# Altium footprint library alexsb.PCBLIB: 444 footprints (part 27 of 28)
Each footprint in its own frame and in the unit in brackets; x right, y up, seen from the top. Pads: shape width x height; smd on the part's side, far side on the other; paste and mask are expansions set on the pad; w line width, h text height; cw(c..) or ccw(c..) is an arc to the next point about the centre after c.
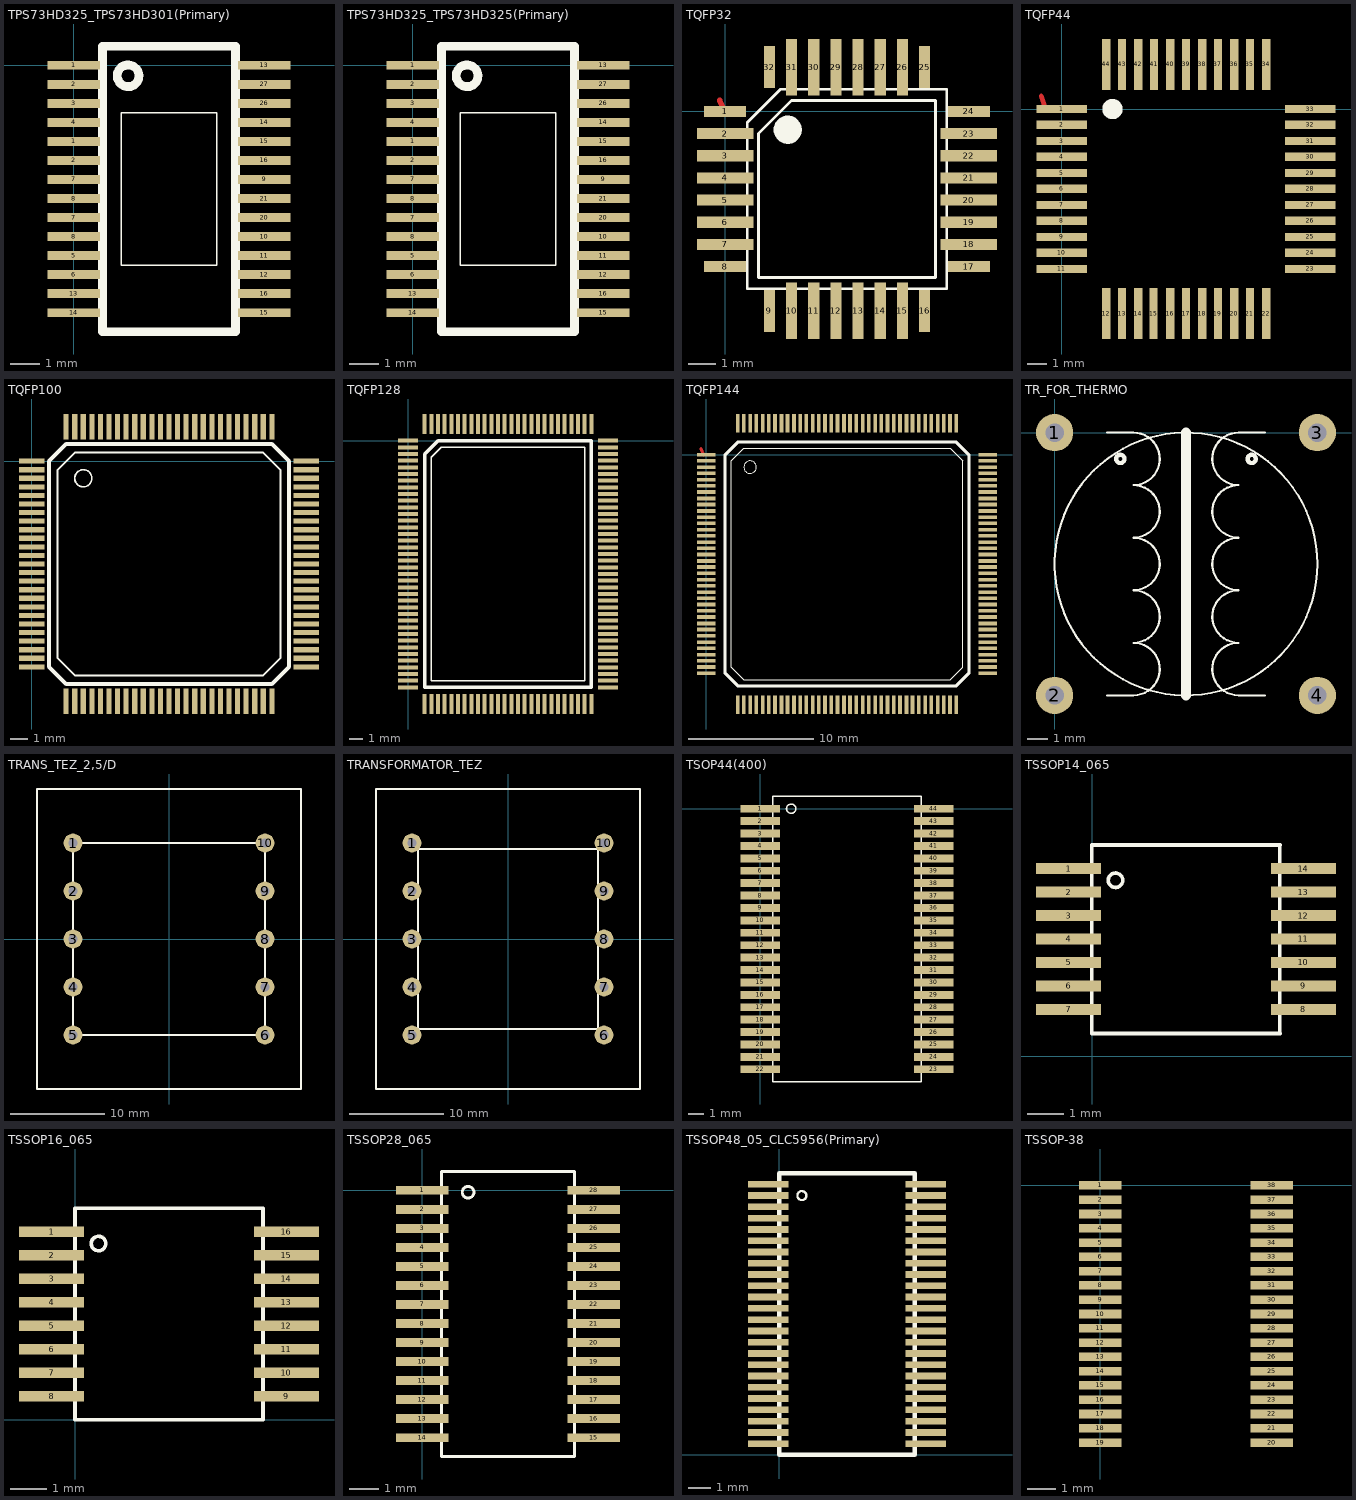
[diagram p26: the footprints below, top view; thin cyan lines are the x and y axes]

## TPS73HD325_TPS73HD301(Primary) [mm]
pads (28):
  rect 1.8x0.3 smd: 1(0,-2.6) 1(0,0) 2(0,-3.25) 2(0,-0.65) 3(0,-1.3) 4(0,-1.95) 5(0,-6.5) 6(0,-7.15) 7(0,-5.2) 7(0,-3.9) 8(0,-5.85) 8(0,-4.55) 9(6.5,-3.9) 10(6.5,-5.85) 11(6.5,-6.5) 12(6.5,-7.15) 13(0,-7.8) 13(6.5,0) 14(0,-8.45) 14(6.5,-1.95) 15(6.5,-8.45) 15(6.5,-2.6) 16(6.5,-7.8) 16(6.5,-3.25) 20(6.5,-5.2) 21(6.5,-4.55) 26(6.5,-1.3) 27(6.5,-0.65)
Top Overlay:
  lines w0.05: 1.625,-6.825 4.875,-6.825 4.875,-1.625 1.625,-1.625 1.625,-6.825
  lines w0.3: 2.048,-0.043 ccw(c1.853,-0.357) 2.136,-0.118 ; 0.975,-9.1 5.525,-9.1 5.525,0.65 0.975,0.65 0.975,-9.1

## TPS73HD325_TPS73HD325(Primary) [mm]
pads (28):
  rect 1.8x0.3 smd: 1(0,-2.6) 1(0,0) 2(0,-3.25) 2(0,-0.65) 3(0,-1.3) 4(0,-1.95) 5(0,-6.5) 6(0,-7.15) 7(0,-5.2) 7(0,-3.9) 8(0,-5.85) 8(0,-4.55) 9(6.5,-3.9) 10(6.5,-5.85) 11(6.5,-6.5) 12(6.5,-7.15) 13(0,-7.8) 13(6.5,0) 14(0,-8.45) 14(6.5,-1.95) 15(6.5,-8.45) 15(6.5,-2.6) 16(6.5,-7.8) 16(6.5,-3.25) 20(6.5,-5.2) 21(6.5,-4.55) 26(6.5,-1.3) 27(6.5,-0.65)
Top Overlay:
  lines w0.05: 1.625,-6.825 4.875,-6.825 4.875,-1.625 1.625,-1.625 1.625,-6.825
  lines w0.3: 2.048,-0.043 ccw(c1.853,-0.357) 2.136,-0.118 ; 0.975,-9.1 5.525,-9.1 5.525,0.65 0.975,0.65 0.975,-9.1

## TQFP32 [mil]
pads (32):
  rect 60x16 smd: 1(0,0) 8(0,-220.47) 17(346.46,-220.47) 24(346.46,0)
  rect 80x16 smd: 2(0,-31.5) 3(0,-62.99) 4(0,-94.49) 5(0,-125.98) 6(0,-157.48) 7(0,-188.98) 18(346.46,-188.98) 19(346.46,-157.48) 20(346.46,-125.98) 21(346.46,-94.49) 22(346.46,-62.99) 23(346.46,-31.5)
  rect 16x60 smd: 9(62.99,-283.46) 16(283.46,-283.46) 25(283.46,62.99) 32(62.99,62.99)
  rect 16x80 smd: 10(94.49,-283.46) 11(125.98,-283.46) 12(157.48,-283.46) 13(188.98,-283.46) 14(220.47,-283.46) 15(251.97,-283.46) 26(251.97,62.99) 27(220.47,62.99) 28(188.98,62.99) 29(157.48,62.99) 30(125.98,62.99) 31(94.49,62.99)
Top Layer:
  lines w7.87: -7.87,15.75 0,0
Top Overlay:
  circle w20: c88.98,-25.98 r10
  lines w3.94: 31.5,-251.97 314.96,-251.97 314.96,31.5 78.74,31.5 31.5,-15.75 31.5,-251.97 ; 47.24,-236.22 299.21,-236.22 299.21,15.75 94.49,15.75 47.24,-31.5 47.24,-236.22

## TQFP44 [mil]
pads (44):
  rect 100x16 smd: 1(0,0) 2(0,-31) 3(0,-63) 4(0,-94) 5(0,-126) 6(0,-157) 7(0,-189) 8(0,-220) 9(0,-252) 10(0,-283) 11(0,-315) 23(490,-315) 24(490,-283) 25(490,-252) 26(490,-220) 27(490,-189) 28(490,-157) 29(490,-126) 30(490,-94) 31(490,-63) 32(490,-31) 33(490,0)
  rect 16x100 smd: 12(88,-403) 13(119,-403) 14(151,-403) 15(181,-403) 16(214,-403) 17(245,-403) 18(277,-403) 19(308,-403) 20(340,-403) 21(371,-403) 22(403,-403) 34(403,88) 35(371,88) 36(340,88) 37(308,88) 38(277,88) 39(245,88) 40(214,88) 41(182,88) 42(151,88) 43(119,88) 44(88,88)
Top Layer:
  lines w9.84: -40.16,25.98 -32.28,2.36
Top Overlay:
  circle w20: c100,0 r10

## TQFP100 [mm]
pads (100):
  rect 1.5x0.3 smd: 1(0,0) 2(0,-0.5) 3(0,-1) 4(0,-1.5) 5(0,-2) 6(0,-2.5) 7(0,-3) 8(0,-3.5) 9(0,-4) 10(0,-4.5) 11(0,-5) 12(0,-5.5) 13(0,-6) 14(0,-6.5) 15(0,-7) 16(0,-7.5) 17(0,-8) 18(0,-8.5) 19(0,-9) 20(0,-9.5) 21(0,-10) 22(0,-10.5) 23(0,-11) 24(0,-11.5) 25(0,-12) 51(16,-12) 52(16,-11.5) 53(16,-11) 54(16,-10.5) 55(16,-10) 56(16,-9.5) 57(16,-9) 58(16,-8.5) 59(16,-8) 60(16,-7.5) 61(16,-7) 62(16,-6.5) 63(16,-6) 64(16,-5.5) 65(16,-5) 66(16,-4.5) 67(16,-4) 68(16,-3.5) 69(16,-3) 70(16,-2.5) 71(16,-2) 72(16,-1.5) 73(16,-1) 74(16,-0.5) 75(16,0)
  rect 0.3x1.5 smd: 26(2,-14) 27(2.5,-14) 28(3,-14) 29(3.5,-14) 30(4,-14) 31(4.5,-14) 32(5,-14) 33(5.5,-14) 34(6,-14) 35(6.5,-14) 36(7,-14) 37(7.5,-14) 38(8,-14) 39(8.5,-14) 40(9,-14) 41(9.5,-14) 42(10,-14) 43(10.5,-14) 44(11,-14) 45(11.5,-14) 46(12,-14) 47(12.5,-14) 48(13,-14) 49(13.5,-14) 50(14,-14) 76(14,2) 77(13.5,2) 78(13,2) 79(12.5,2) 80(12,2) 81(11.5,2) 82(11,2) 83(10.5,2) 84(10,2) 85(9.5,2) 86(9,2) 87(8.5,2) 88(8,2) 89(7.5,2) 90(7,2) 91(6.5,2) 92(6,2) 93(5.5,2) 94(5,2) 95(4.5,2) 96(4,2) 97(3.5,2) 98(3,2) 99(2.5,2) 100(2,2)
Top Overlay:
  circle w0.1: c3,-1 r0.5
  lines w0.1: 1.5,-11.5 2.5,-12.5 13.5,-12.5 14.5,-11.5 14.5,-0.5 13.5,0.5 2.5,0.5 1.5,-0.5 1.5,-11.5
  lines w0.25: 1,-12 2,-13 14,-13 15,-12 15,0 14,1 2,1 1,0 1,-12

## TQFP128 [mm]
pads (128):
  rect 1.5x0.3 smd: 1(0,0) 2(0,-0.5) 3(0,-1) 4(0,-1.5) 5(0,-2) 6(0,-2.5) 7(0,-3) 8(0,-3.5) 9(0,-4) 10(0,-4.5) 11(0,-5) 12(0,-5.5) 13(0,-6) 14(0,-6.5) 15(0,-7) 16(0,-7.5) 17(0,-8) 18(0,-8.5) 19(0,-9) 20(0,-9.5) 21(0,-10) 22(0,-10.5) 23(0,-11) 24(0,-11.5) 25(0,-12) 26(0,-12.5) 27(0,-13) 28(0,-13.5) 29(0,-14) 30(0,-14.5) 31(0,-15) 32(0,-15.5) 33(0,-16) 34(0,-16.5) 35(0,-17) 36(0,-17.5) 37(0,-18) 38(0,-18.5) 65(15,-18.5) 66(15,-18) 67(15,-17.5) 68(15,-17) 69(15,-16.5) 70(15,-16) 71(15,-15.5) 72(15,-15) 73(15,-14.5) 74(15,-14) 75(15,-13.5) 76(15,-13) 77(15,-12.5) 78(15,-12) 79(15,-11.5) 80(15,-11) 81(15,-10.5) 82(15,-10) 83(15,-9.5) 84(15,-9) 85(15,-8.5) 86(15,-8) 87(15,-7.5) 88(15,-7) 89(15,-6.5) 90(15,-6) 91(15,-5.5) 92(15,-5) 93(15,-4.5) 94(15,-4) 95(15,-3.5) 96(15,-3) 97(15,-2.5) 98(15,-2) 99(15,-1.5) 100(15,-1) 101(15,-0.5) 102(15,0)
  rect 0.3x1.5 smd: 39(1.25,-19.75) 40(1.75,-19.75) 41(2.25,-19.75) 42(2.75,-19.75) 43(3.25,-19.75) 44(3.75,-19.75) 45(4.25,-19.75) 46(4.75,-19.75) 47(5.25,-19.75) 48(5.75,-19.75) 49(6.25,-19.75) 50(6.75,-19.75) 51(7.25,-19.75) 52(7.75,-19.75) 53(8.25,-19.75) 54(8.75,-19.75) 55(9.25,-19.75) 56(9.75,-19.75) 57(10.25,-19.75) 58(10.75,-19.75) 59(11.25,-19.75) 60(11.75,-19.75) 61(12.25,-19.75) 62(12.75,-19.75) 63(13.25,-19.75) 64(13.75,-19.75) 103(13.75,1.25) 104(13.25,1.25) 105(12.75,1.25) 106(12.25,1.25) 107(11.75,1.25) 108(11.25,1.25) 109(10.75,1.25) 110(10.25,1.25) 111(9.75,1.25) 112(9.25,1.25) 113(8.75,1.25) 114(8.25,1.25) 115(7.75,1.25) 116(7.25,1.25) 117(6.75,1.25) 118(6.25,1.25) 119(5.75,1.25) 120(5.25,1.25) 121(4.75,1.25) 122(4.25,1.25) 123(3.75,1.25) 124(3.25,1.25) 125(2.75,1.25) 126(2.25,1.25) 127(1.75,1.25) 128(1.25,1.25)
Top Overlay:
  lines w0.1: 1.75,-18 13.25,-18 13.25,-0.5 2.5,-0.5 1.75,-1.25 1.75,-18
  lines w0.254: 1.25,-18.5 13.75,-18.5 13.75,0 2.25,0 1.25,-1 1.25,-18.5

## TQFP144 [mm]
pads (144):
  rect 1.5x0.3 smd: 1(0,0) 2(0,-0.5) 3(0,-1) 4(0,-1.5) 5(0,-2) 6(0,-2.5) 7(0,-3) 8(0,-3.5) 9(0,-4) 10(0,-4.5) 11(0,-5) 12(0,-5.5) 13(0,-6) 14(0,-6.5) 15(0,-7) 16(0,-7.5) 17(0,-8) 18(0,-8.5) 19(0,-9) 20(0,-9.5) 21(0,-10) 22(0,-10.5) 23(0,-11) 24(0,-11.5) 25(0,-12) 26(0,-12.5) 27(0,-13) 28(0,-13.5) 29(0,-14) 30(0,-14.5) 31(0,-15) 32(0,-15.5) 33(0,-16) 34(0,-16.5) 35(0,-17) 36(0,-17.5) 73(22.5,-17.5) 74(22.5,-17) 75(22.5,-16.5) 76(22.5,-16) 77(22.5,-15.5) 78(22.5,-15) 79(22.5,-14.5) 80(22.5,-14) 81(22.5,-13.5) 82(22.5,-13) 83(22.5,-12.5) 84(22.5,-12) 85(22.5,-11.5) 86(22.5,-11) 87(22.5,-10.5) 88(22.5,-10) 89(22.5,-9.5) 90(22.5,-9) 91(22.5,-8.5) 92(22.5,-8) 93(22.5,-7.5) 94(22.5,-7) 95(22.5,-6.5) 96(22.5,-6) 97(22.5,-5.5) 98(22.5,-5) 99(22.5,-4.5) 100(22.5,-4) 101(22.5,-3.5) 102(22.5,-3) 103(22.5,-2.5) 104(22.5,-2) 105(22.5,-1.5) 106(22.5,-1) 107(22.5,-0.5) 108(22.5,0)
  rect 0.3x1.5 smd: 37(2.5,-20) 38(3,-20) 39(3.5,-20) 40(4,-20) 41(4.5,-20) 42(5,-20) 43(5.5,-20) 44(6,-20) 45(6.5,-20) 46(7,-20) 47(7.5,-20) 48(8,-20) 49(8.5,-20) 50(9,-20) 51(9.5,-20) 52(10,-20) 53(10.5,-20) 54(11,-20) 55(11.5,-20) 56(12,-20) 57(12.5,-20) 58(13,-20) 59(13.5,-20) 60(14,-20) 61(14.5,-20) 62(15,-20) 63(15.5,-20) 64(16,-20) 65(16.5,-20) 66(17,-20) 67(17.5,-20) 68(18,-20) 69(18.5,-20) 70(19,-20) 71(19.5,-20) 72(20,-20) 109(20,2.5) 110(19.5,2.5) 111(19,2.5) 112(18.5,2.5) 113(18,2.5) 114(17.5,2.5) 115(17,2.5) 116(16.5,2.5) 117(16,2.5) 118(15.5,2.5) 119(15,2.5) 120(14.5,2.5) 121(14,2.5) 122(13.5,2.5) 123(13,2.5) 124(12.5,2.5) 125(12,2.5) 126(11.5,2.5) 127(11,2.5) 128(10.5,2.5) 129(10,2.5) 130(9.5,2.5) 131(9,2.5) 132(8.5,2.5) 133(8,2.5) 134(7.5,2.5) 135(7,2.5) 136(6.5,2.5) 137(6,2.5) 138(5.5,2.5) 139(5,2.5) 140(4.5,2.5) 141(4,2.5) 142(3.5,2.5) 143(3,2.5) 144(2.5,2.5)
Top Layer:
  lines w0.25: -0.44,0.48 -0.24,-0.02
Top Overlay:
  circle w0.1: c3.5,-1 r0.5
  lines w0.1: 2,-17 2,-0.5 3,0.5 19.5,0.5 20.5,-0.5 20.5,-17 19.5,-18 3,-18 2,-17
  lines w0.254: 1.5,-17.5 2.5,-18.5 20,-18.5 21,-17.5 21,0 20,1 2.5,1 1.5,0 1.5,-17.5

## TR_FOR_THERMO [mm]
pads (4):
  round 1.8 hole 0.9: 1(0,0) 2(0,-12.7) 3(12.7,0) 4(12.7,-12.7)
Top Overlay:
  circle w0.1: c6.35,-6.35 r6.35
  circle w0.2: c9.525,-1.27 r0.2
  circle w0.2: c3.175,-1.27 r0.2
  lines w0.1: 2.54,-12.7 3.81,-12.7 ; 2.54,0 3.81,0 ; 5.02,-11.816 ccw(c3.81,-11.43) 3.81,-10.16 ; 5.02,-9.276 ccw(c3.81,-8.89) 3.81,-7.62 ; 5.02,-6.736 ccw(c3.81,-6.35) 3.81,-5.08 ; 5.02,-4.196 ccw(c3.81,-3.81) 3.81,-2.54 ; 5.02,-1.656 ccw(c3.81,-1.27) 3.81,0 ; 7.68,-11.816 cw(c8.89,-11.43) 8.89,-10.16 ; 7.68,-9.276 cw(c8.89,-8.89) 8.89,-7.62 ; 7.68,-6.736 cw(c8.89,-6.35) 8.89,-5.08 ; 7.68,-4.196 cw(c8.89,-3.81) 8.89,-2.54 ; 7.68,-1.656 cw(c8.89,-1.27) 8.89,0 ; 10.16,-12.7 8.89,-12.7 ; 10.16,0 8.89,0 ; 3.81,-12.7 ccw(c3.81,-11.43) 3.81,-10.16 ; 3.81,-12.7 ccw(c3.81,-11.43) 3.81,-10.16 ; 3.81,-10.16 ccw(c3.81,-8.89) 3.81,-7.62 ; 3.81,-10.16 ccw(c3.81,-8.89) 3.81,-7.62 ; 3.81,-7.62 ccw(c3.81,-6.35) 3.81,-5.08 ; 3.81,-7.62 ccw(c3.81,-6.35) 3.81,-5.08 ; 3.81,-5.08 ccw(c3.81,-3.81) 3.81,-2.54 ; 3.81,-5.08 ccw(c3.81,-3.81) 3.81,-2.54 ; 3.81,-2.54 ccw(c3.81,-1.27) 3.81,0 ; 3.81,-2.54 ccw(c3.81,-1.27) 3.81,0 ; 8.89,-12.7 cw(c8.89,-11.43) 8.89,-10.16 ; 8.89,-12.7 cw(c8.89,-11.43) 8.89,-10.16 ; 8.89,-10.16 cw(c8.89,-8.89) 8.89,-7.62 ; 8.89,-10.16 cw(c8.89,-8.89) 8.89,-7.62 ; 8.89,-7.62 cw(c8.89,-6.35) 8.89,-5.08 ; 8.89,-7.62 cw(c8.89,-6.35) 8.89,-5.08 ; 8.89,-5.08 cw(c8.89,-3.81) 8.89,-2.54 ; 8.89,-5.08 cw(c8.89,-3.81) 8.89,-2.54 ; 8.89,-2.54 cw(c8.89,-1.27) 8.89,0 ; 8.89,-2.54 cw(c8.89,-1.27) 8.89,0
  lines w0.5: 6.35,-12.7 6.35,0

## TRANS_TEZ_2,5/D [mm]
pads (10):
  round 2 hole 0.9: 1(-10.16,10.16) 2(-10.16,5.08) 3(-10.16,0) 4(-10.16,-5.08) 5(-10.16,-10.16) 6(10.16,-10.16) 7(10.16,-5.08) 8(10.16,0) 9(10.16,5.08) 10(10.16,10.16)
Top Overlay:
  lines w0.254: -13.97,-15.875 13.97,-15.875 13.97,15.875 -13.97,15.875 -13.97,-15.875 ; -10.16,-10.16 10.16,-10.16 10.16,10.16 -10.16,10.16 -10.16,-10.16

## TRANSFORMATOR_TEZ [mm]
pads (10):
  round 2 hole 0.9: 1(-10.16,10.16) 2(-10.16,5.08) 3(-10.16,0) 4(-10.16,-5.08) 5(-10.16,-10.16) 6(10.16,-10.16) 7(10.16,-5.08) 8(10.16,0) 9(10.16,5.08) 10(10.16,10.16)
Top Overlay:
  lines w0.254: -13.97,-15.875 13.97,-15.875 13.97,15.875 -13.97,15.875 -13.97,-15.875 ; -9.525,-9.525 9.525,-9.525 9.525,9.525 -9.525,9.525 -9.525,-9.525

## TSOP44(400) [mm]
pads (44):
  rect 2.54x0.508 smd: 1(0,0) 2(0,-0.8) 3(0,-1.6) 4(0,-2.4) 5(0,-3.2) 6(0,-4) 7(0,-4.8) 8(0,-5.6) 9(0,-6.4) 10(0,-7.2) 11(0,-8) 12(0,-8.8) 13(0,-9.6) 14(0,-10.4) 15(0,-11.2) 16(0,-12) 17(0,-12.8) 18(0,-13.6) 19(0,-14.4) 20(0,-15.2) 21(0,-16) 22(0,-16.8) 23(11.2,-16.8) 24(11.2,-16) 25(11.2,-15.2) 26(11.2,-14.4) 27(11.2,-13.6) 28(11.2,-12.8) 29(11.2,-12) 30(11.2,-11.2) 31(11.2,-10.4) 32(11.2,-9.6) 33(11.2,-8.8) 34(11.2,-8) 35(11.2,-7.2) 36(11.2,-6.4) 37(11.2,-5.6) 38(11.2,-4.8) 39(11.2,-4) 40(11.2,-3.2) 41(11.2,-2.4) 42(11.2,-1.6) 43(11.2,-0.8) 44(11.2,0)
Top Overlay:
  circle w0.1: c2,0 r0.3
  lines w0.1: 0.8,-17.6 10.4,-17.6 10.4,0.8 0.8,0.8 0.8,-17.6

## TSSOP14_065 [mm]
pads (14):
  rect 1.8x0.3 smd: 1(-0.65,5.2) 2(-0.65,4.55) 3(-0.65,3.9) 4(-0.65,3.25) 5(-0.65,2.6) 6(-0.65,1.95) 7(-0.65,1.3) 8(5.85,1.3) 9(5.85,1.95) 10(5.85,2.6) 11(5.85,3.25) 12(5.85,3.9) 13(5.85,4.55) 14(5.85,5.2)
Top Overlay:
  circle w0.1: c0.65,4.875 r0.2
  lines w0.1: -0.01,0.64 -0.01,5.84 ; 0,0.635 5.2,0.635 ; 0,5.85 5.2,5.85 ; 5.19,0.64 5.19,5.84

## TSSOP16_065 [mm]
pads (16):
  rect 1.8x0.3 smd: 1(-0.65,5.2) 2(-0.65,4.55) 3(-0.65,3.9) 4(-0.65,3.25) 5(-0.65,2.6) 6(-0.65,1.95) 7(-0.65,1.3) 8(-0.65,0.65) 9(5.85,0.65) 10(5.85,1.3) 11(5.85,1.95) 12(5.85,2.6) 13(5.85,3.25) 14(5.85,3.9) 15(5.85,4.55) 16(5.85,5.2)
Top Overlay:
  circle w0.1: c0.65,4.875 r0.2
  lines w0.1: 0,0 5.2,0 5.2,5.85 0,5.85 0,0

## TSSOP28_065 [mm]
pads (28):
  rect 1.8x0.3 smd: 1(0,0) 2(0,-0.65) 3(0,-1.3) 4(0,-1.95) 5(0,-2.6) 6(0,-3.25) 7(0,-3.9) 8(0,-4.55) 9(0,-5.2) 10(0,-5.85) 11(0,-6.5) 12(0,-7.15) 13(0,-7.8) 14(0,-8.45) 15(5.85,-8.45) 16(5.85,-7.8) 17(5.85,-7.15) 18(5.85,-6.5) 19(5.85,-5.85) 20(5.85,-5.2) 21(5.85,-4.55) 22(5.85,-3.9) 23(5.85,-3.25) 24(5.85,-2.6) 25(5.85,-1.95) 26(5.85,-1.3) 27(5.85,-0.65) 28(5.85,0)
Top Overlay:
  circle w0.1: c1.56,-0.065 r0.2
  lines w0.1: 0.65,-9.1 0.65,0.65 5.2,0.65 5.2,-9.1 0.65,-9.1

## TSSOP48_05_CLC5956(Primary) [mm]
pads (48):
  rect 1.8x0.3 smd: 1(6.5,0.5) 2(-0.5,8.5) 3(6.5,1) 4(6.5,1.5) 5(-0.5,9) 6(6.5,2) 7(6.5,2.5) 8(-0.5,9.5) 9(6.5,3) 10(6.5,10.5) 11(-0.5,10) 12(-0.5,3.5) 13(-0.5,3) 14(-0.5,10.5) 15(-0.5,2.5) 16(-0.5,2) 17(-0.5,11) 18(-0.5,1.5) 19(-0.5,1) 20(-0.5,11.5) 21(-0.5,0.5) 22(6.5,11) 23(-0.5,12) 24(-0.5,4) 25(6.5,3.5) 26(-0.5,8) 27(6.5,11.5) 28(6.5,4) 29(-0.5,7.5) 30(6.5,4.5) 31(6.5,5) 32(-0.5,7) 33(6.5,5.5) 34(6.5,6) 35(-0.5,6.5) 36(6.5,6.5) 37(6.5,7) 38(-0.5,6) 39(6.5,12) 40(6.5,7.5) 41(-0.5,5.5) 42(6.5,8) 43(6.5,8.5) 44(-0.5,5) 45(6.5,9) 46(6.5,9.5) 47(-0.5,4.5) 48(6.5,10)
Top Overlay:
  circle w0.1: c1,11.5 r0.2
  lines w0.2: 0,0 0,12.5 3,12.5 6,12.5 6,0 0,0

## TSSOP-38 [mm]
pads (38):
  rect 1.5x0.3 smd: 1(0,0) 2(0,-0.5) 3(0,-1) 4(0,-1.5) 5(0,-2) 6(0,-2.5) 7(0,-3) 8(0,-3.5) 9(0,-4) 10(0,-4.5) 11(0,-5) 12(0,-5.5) 13(0,-6) 14(0,-6.5) 15(0,-7) 16(0,-7.5) 17(0,-8) 18(0,-8.5) 19(0,-9) 20(6,-9) 21(6,-8.5) 22(6,-8) 23(6,-7.5) 24(6,-7) 25(6,-6.5) 26(6,-6) 27(6,-5.5) 28(6,-5) 29(6,-4.5) 30(6,-4) 31(6,-3.5) 32(6,-3) 33(6,-2.5) 34(6,-2) 35(6,-1.5) 36(6,-1) 37(6,-0.5) 38(6,0)